# Altium integrated library LM358MX.IntLib: 1 symbol
Pins are listed as number, name and electrical type; pins without a type are passive.

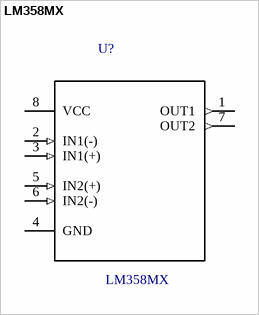
[diagram p0: symbol LM358MX]

## LM358MX
designator U?
General Purpose Amplifier 2 Circuit 8-SOIC; MF: Texas Instruments; Package: SOIC-8 ON Semiconductor; Price: None; MP: LM358MX; Availability: Unavailable; SnapEDA_Link: https://www.snapeda.com/parts/LM358MX/Texas%20Instruments/view-part/544131/?ref=snap; Value: *
footprint *SOP127P600X180-8N
pins: 1 OUT1 (out), 2 IN1(-) (in), 3 IN1(+) (in), 4 GND, 5 IN2(+) (in), 6 IN2(-) (in), 7 OUT2 (out), 8 VCC (power)